# Altium footprint library RES_4-ARRAY_YC124-JR-0722RL.PcbLib: 1 footprints
Each footprint in its own frame and in the unit in brackets; x right, y up, seen from the top. Pads: shape width x height; smd on the part's side, far side on the other; paste and mask are expansions set on the pad; w line width, h text height; cw(c..) or ccw(c..) is an arc to the next point about the centre after c.
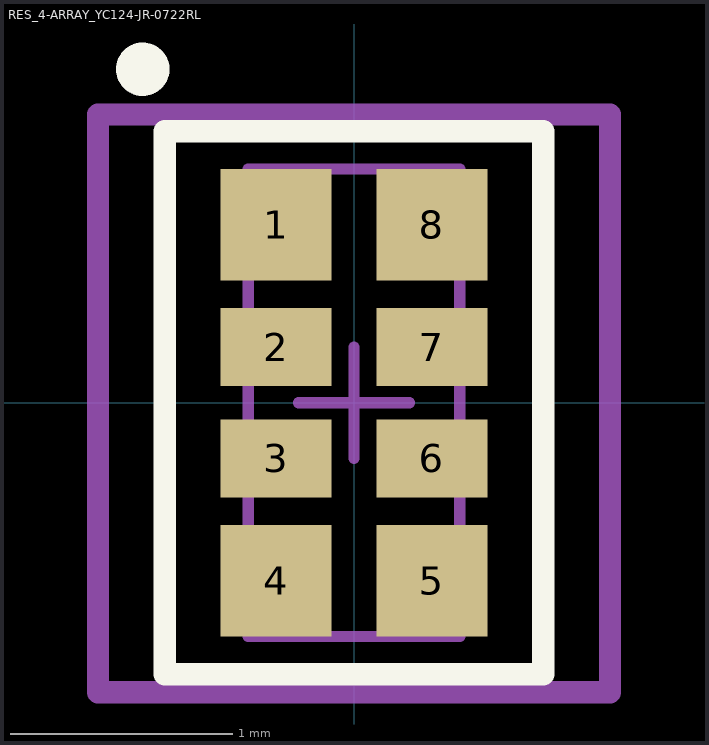
[diagram p0: the footprint, top view; thin cyan lines are the x and y axes]

## RES_4-ARRAY_YC124-JR-0722RL [mm]
height 0.55
pads (8):
  rect 0.5x0.5 smd: 1(-0.35,0.8) 4(-0.35,-0.8) 5(0.35,-0.8) 8(0.35,0.8)
  rect 0.5x0.35 smd: 2(-0.35,0.25) 3(-0.35,-0.25) 6(0.35,-0.25) 7(0.35,0.25)
Top Overlay:
  circle w0.12: c-0.949,1.499 r0.06
  lines w0.1: -0.85,-1.219 -0.85,1.219 0.85,1.219 0.85,-1.219 -0.85,-1.219
Mechanical 13:
  lines w0.05: -0.475,-1.05 -0.475,1.05 0.475,1.05 0.475,-1.05 -0.475,-1.05
Mechanical 15:
  lines w0: 0,-0.25 0,0.25
  lines w0.05: -0.25,0 0.25,0 ; 0,-0.25 0,0.25
  lines w0.1: -1.15,-1.3 -1.15,1.295 1.15,1.295 1.15,-1.3 -1.15,-1.3
3D body: height 0.55, standoff 0, extent -0.475,-1.05 0.475,1.05